# EAGLE library part RF69 (library RadioShield)
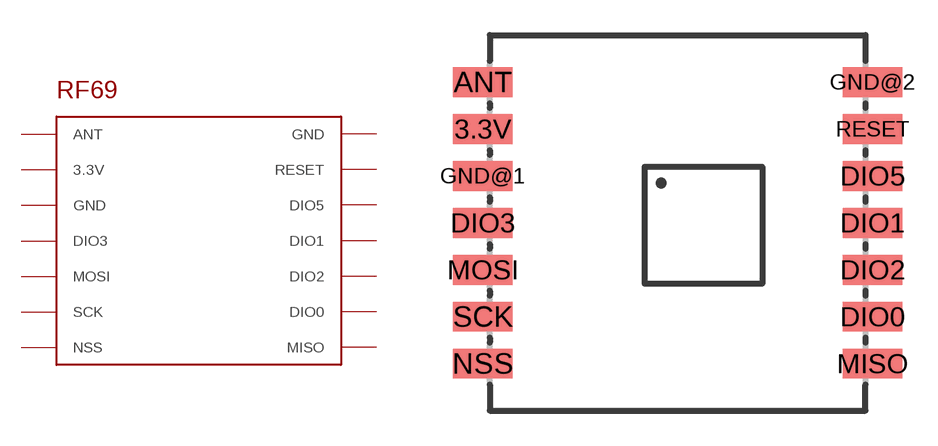
[diagram p5: symbol with the pads of RF69; footprint RF69]

Designator prefix -

## RF69  [RF69]
3.3V  3.3V
ANT  ANT
DIO0  DIO0
DIO1  DIO1
DIO2  DIO2
DIO3  DIO3
DIO5  DIO5
GND@1  GND
GND@2  GND
MISO  MISO
MOSI  MOSI
NSS  NSS
RESET  RESET
SCK  SCK

## Footprint RF69 (pad centres in mm)
smd 2.54 x 1.27: 3.3V -8.3,4; ANT -8.3,6; DIO0 8.3,-4; DIO1 8.3,0; DIO2 8.3,-2; DIO3 -8.3,0; DIO5 8.3,2; GND@1 -8.3,2; GND@2 8.3,6; MISO 8.3,-6; MOSI -8.3,-2; NSS -8.3,-6; RESET 8.3,4; SCK -8.3,-4